# Altium schematic symbol library 24 RESISTORS_THD_AX14_8mm_S.SchLib: 9 symbols
Pins are listed as number, name and electrical type; pins without a type are passive.

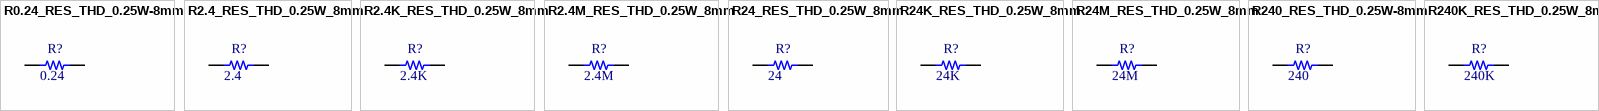
[diagram p0: symbols R0.24_RES_THD_0.25W-8mm to R240K_RES_THD_0.25W_8mm]

## R0.24_RES_THD_0.25W-8mm
designator R?  value 0.24  (hidden comment: *)
RESISTOR_0.24Ohm_THD_0.25W-8mm; Pacakge: THT; Rating: 0.25W; Type: 5%
footprint R0.24_RES_THD_AX14_0.25W (RESISTOR 0.24 Ohm  THD AX14 0.25W Length  8mm)
pins: 1, 2

## R2.4_RES_THD_0.25W_8mm
designator R?  value 2.4  (hidden comment: *)
RESISTOR_2.4Ohm_THD_0.25W-8mm; Pacakge: THT; Rating: 0.25W; Type: 5%
footprint R2.4_RES_THD_AX14_0.25W (RESISTOR 2.4 Ohm  THD AX14 0.25W Length  8mm)
pins: 1, 2

## R2.4K_RES_THD_0.25W_8mm
designator R?  value 2.4K  (hidden comment: *)
RESISTOR_2.4KOhm_THD_0.25W-8mm; Pacakge: THT; Rating: 0.25W; Type: 5%
footprint R2.4K_RES_THD_AX14_0.25W (RESISTOR 2.4K Ohm  THD AX14 0.25W Length  8mm)
pins: 1, 2

## R2.4M_RES_THD_0.25W_8mm
designator R?  value 2.4M  (hidden comment: *)
RESISTOR_2.4MOhm_THD_0.25W-8mm; Pacakge: THT; Rating: 0.25W; Type: 5%
footprint R2.4M_RES_THD_AX14_0.25W (RESISTOR 2.4M Ohm  THD AX14 0.25W Length  8mm)
pins: 1, 2

## R24_RES_THD_0.25W_8mm
designator R?  value 24  (hidden comment: *)
RESISTOR_24Ohm_THD_0.25W-8mm; Pacakge: THT; Rating: 0.25W; Type: 5%; Parameter 1: *
footprint R24_RES_THD_AX14_0.25W (RESISTOR 24 Ohm  THD AX14 0.25W Length  8mm)
pins: 1, 2

## R24K_RES_THD_0.25W_8mm
designator R?  value 24K  (hidden comment: *)
RESISTOR_24KOhm_THD_0.25W-8mm; Pacakge: THT; Rating: 0.25W; Type: 5%
footprint R24K_RES_THD_AX14_0.25W (RESISTOR 24K Ohm  THD AX14 0.25W Length  8mm)
pins: 1, 2

## R24M_RES_THD_0.25W_8mm
designator R?  value 24M  (hidden comment: *)
RESISTOR_24MOhm_THD_0.25W-8mm; Pacakge: THT; Rating: 0.25W; Type: 5%
footprint R24M_RES_THD_AX14_0.25W (RESISTOR 24M Ohm  THD AX14 0.25W Length  8mm)
pins: 1, 2

## R240_RES_THD_0.25W-8mm
designator R?  value 240  (hidden comment: *)
RESISTOR_240Ohm_THD_0.25W-8mm; Pacakge: THT; Rating: 0.25W; Type: 5%; Parameter 1: *
footprint R240_RES_THD_AX14_0.25W (RESISTOR 240 Ohm  THD AX14 0.25W Length  8mm)
pins: 1, 2

## R240K_RES_THD_0.25W_8mm
designator R?  value 240K  (hidden comment: *)
RESISTOR_240KOhm_THD_0.25W-8mm; Pacakge: THT; Rating: 0.25W; Type: 5%
footprint R240K_RES_THD_AX14_0.25W (RESISTOR 240K Ohm  THD AX14 0.25W Length  8mm)
pins: 1, 2